# EAGLE library part XC3S250E (library xilinx-XC3SXXXE_vq100)
Xilinx Spartan 3E FPGA
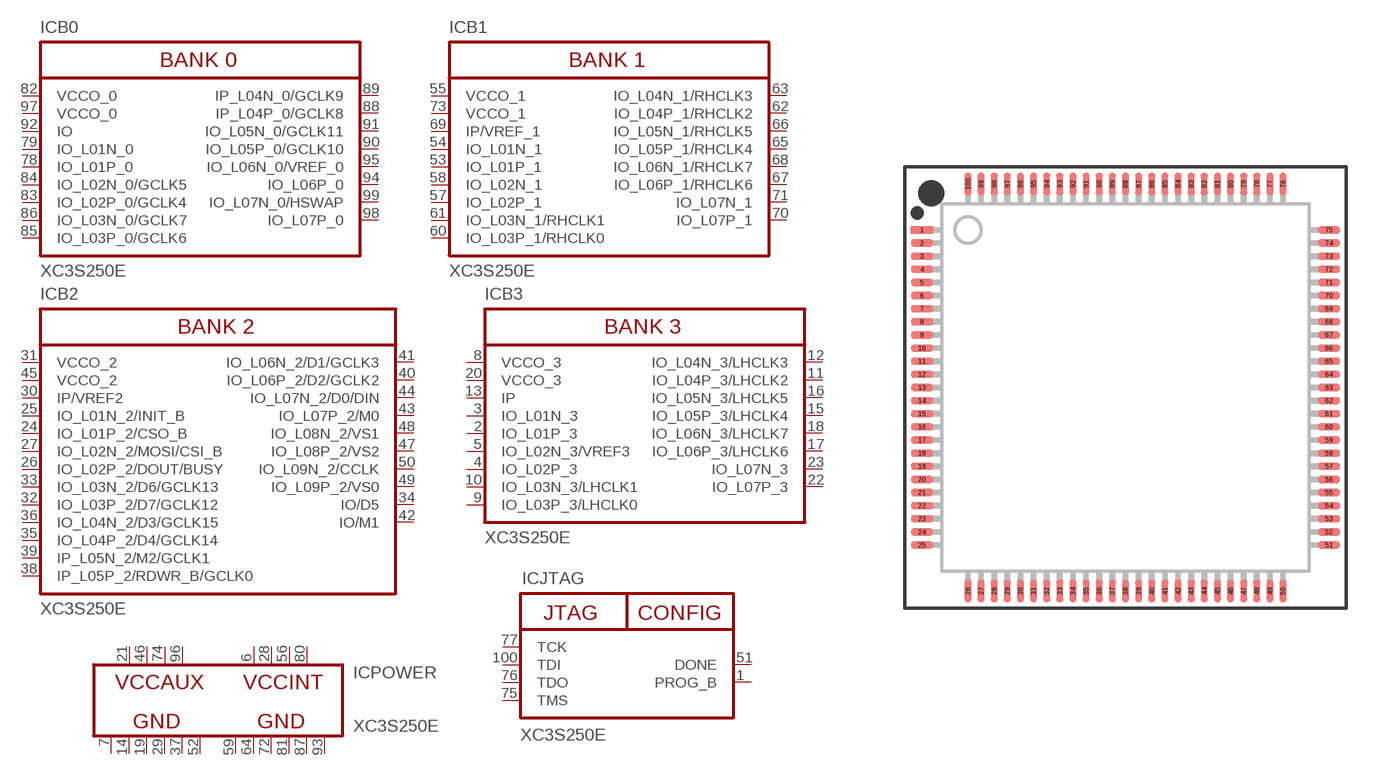
[diagram p1: symbol with the pads of VQ100; footprint VQ100]

Designator prefix IC; gates B0=XC100VQ100BANK0 B1=XC100VQ100BANK1 B2=XC100VQ100BANK2 B3=XC100VQ100BANK3 JTAG=XC100VQ100JTAG POWER=XC100VQ100POWER

## XC3S250E-VQ100  [VQ100]
1  JTAG:PROG_B  in
2  B3:IO_L01P_3
3  B3:IO_L01N_3
4  B3:IO_L02P_3
5  B3:IO_L02N_3/VREF3
6  POWER:VCCINT  pwr
7  POWER:GND  pwr
8  B3:VCCO_3  pwr
9  B3:IO_L03P_3/LHCLK0
10  B3:IO_L03N_3/LHCLK1
11  B3:IO_L04P_3/LHCLK2
12  B3:IO_L04N_3/LHCLK3
13  B3:IP  in
14  POWER:GND  pwr
15  B3:IO_L05P_3/LHCLK4
16  B3:IO_L05N_3/LHCLK5
17  B3:IO_L06P_3/LHCLK6
18  B3:IO_L06N_3/LHCLK7
19  POWER:GND  pwr
20  B3:VCCO_3  pwr
21  POWER:VCCAUX  pwr
22  B3:IO_L07P_3
23  B3:IO_L07N_3
24  B2:IO_L01P_2/CSO_B
25  B2:IO_L01N_2/INIT_B
26  B2:IO_L02P_2/DOUT/BUSY
27  B2:IO_L02N_2/MOSI/CSI_B
28  POWER:VCCINT  pwr
29  POWER:GND  pwr
30  B2:IP/VREF2  in
31  B2:VCCO_2  pwr
32  B2:IO_L03P_2/D7/GCLK12
33  B2:IO_L03N_2/D6/GCLK13
34  B2:IO/D5
35  B2:IO_L04P_2/D4/GCLK14
36  B2:IO_L04N_2/D3/GCLK15
37  POWER:GND  pwr
38  B2:IP_L05P_2/RDWR_B/GCLK0  in
39  B2:IP_L05N_2/M2/GCLK1  in
40  B2:IO_L06P_2/D2/GCLK2
41  B2:IO_L06N_2/D1/GCLK3
42  B2:IO/M1
43  B2:IO_L07P_2/M0
44  B2:IO_L07N_2/D0/DIN
45  B2:VCCO_2  pwr
46  POWER:VCCAUX  pwr
47  B2:IO_L08P_2/VS2
48  B2:IO_L08N_2/VS1
49  B2:IO_L09P_2/VS0
50  B2:IO_L09N_2/CCLK
51  JTAG:DONE  out
52  POWER:GND  pwr
53  B1:IO_L01P_1
54  B1:IO_L01N_1
55  B1:VCCO_1  pwr
56  POWER:VCCINT  pwr
57  B1:IO_L02P_1
58  B1:IO_L02N_1
59  POWER:GND  pwr
60  B1:IO_L03P_1/RHCLK0
61  B1:IO_L03N_1/RHCLK1
62  B1:IO_L04P_1/RHCLK2
63  B1:IO_L04N_1/RHCLK3
64  POWER:GND  pwr
65  B1:IO_L05P_1/RHCLK4
66  B1:IO_L05N_1/RHCLK5
67  B1:IO_L06P_1/RHCLK6
68  B1:IO_L06N_1/RHCLK7
69  B1:IP/VREF_1  in
70  B1:IO_L07P_1
71  B1:IO_L07N_1
72  POWER:GND  pwr
73  B1:VCCO_1  pwr
74  POWER:VCCAUX  pwr
75  JTAG:TMS  in
76  JTAG:TDO  out
77  JTAG:TCK  in
78  B0:IO_L01P_0
79  B0:IO_L01N_0
80  POWER:VCCINT  pwr
81  POWER:GND  pwr
82  B0:VCCO_0  pwr
83  B0:IO_L02P_0/GCLK4
84  B0:IO_L02N_0/GCLK5
85  B0:IO_L03P_0/GCLK6
86  B0:IO_L03N_0/GCLK7
87  POWER:GND  pwr
88  B0:IP_L04P_0/GCLK8  in
89  B0:IP_L04N_0/GCLK9  in
90  B0:IO_L05P_0/GCLK10
91  B0:IO_L05N_0/GCLK11
92  B0:IO
93  POWER:GND  pwr
94  B0:IO_L06P_0
95  B0:IO_L06N_0/VREF_0
96  POWER:VCCAUX  pwr
97  B0:VCCO_0  pwr
98  B0:IO_L07P_0
99  B0:IO_L07N_0/HSWAP
100  JTAG:TDI  in

## Footprint VQ100 (pad centres in mm)
Very-thin Quad Flat Package
smd 0.85 x 0.28: 1 -7.75,6; 2 -7.75,5.5; 3 -7.75,5; 4 -7.75,4.5; 5 -7.75,4; 6 -7.75,3.5; 7 -7.75,3; 8 -7.75,2.5; 9 -7.75,2; 10 -7.75,1.5; 11 -7.75,1; 12 -7.75,0.5; 13 -7.75,0; 14 -7.75,-0.5; 15 -7.75,-1; 16 -7.75,-1.5; 17 -7.75,-2; 18 -7.75,-2.5; 19 -7.75,-3; 20 -7.75,-3.5; 21 -7.75,-4; 22 -7.75,-4.5; 23 -7.75,-5; 24 -7.75,-5.5; 25 -7.75,-6; 51 7.75,-6; 52 7.75,-5.5; 53 7.75,-5; 54 7.75,-4.5; 55 7.75,-4; 56 7.75,-3.5; 57 7.75,-3; 58 7.75,-2.5; 59 7.75,-2; 60 7.75,-1.5; 61 7.75,-1; 62 7.75,-0.5; 63 7.75,0; 64 7.75,0.5; 65 7.75,1; 66 7.75,1.5; 67 7.75,2; 68 7.75,2.5; 69 7.75,3; 70 7.75,3.5; 71 7.75,4; 72 7.75,4.5; 73 7.75,5; 74 7.75,5.5; 75 7.75,6
smd 0.28 x 0.85: 26 -6,-7.75; 27 -5.5,-7.75; 28 -5,-7.75; 29 -4.5,-7.75; 30 -4,-7.75; 31 -3.5,-7.75; 32 -3,-7.75; 33 -2.5,-7.75; 34 -2,-7.75; 35 -1.5,-7.75; 36 -1,-7.75; 37 -0.5,-7.75; 38 0,-7.75; 39 0.5,-7.75; 40 1,-7.75; 41 1.5,-7.75; 42 2,-7.75; 43 2.5,-7.75; 44 3,-7.75; 45 3.5,-7.75; 46 4,-7.75; 47 4.5,-7.75; 48 5,-7.75; 49 5.5,-7.75; 50 6,-7.75; 76 6,7.75; 77 5.5,7.75; 78 5,7.75; 79 4.5,7.75; 80 4,7.75; 81 3.5,7.75; 82 3,7.75; 83 2.5,7.75; 84 2,7.75; 85 1.5,7.75; 86 1,7.75; 87 0.5,7.75; 88 0,7.75; 89 -0.5,7.75; 90 -1,7.75; 91 -1.5,7.75; 92 -2,7.75; 93 -2.5,7.75; 94 -3,7.75; 95 -3.5,7.75; 96 -4,7.75; 97 -4.5,7.75; 98 -5,7.75; 99 -5.5,7.75; 100 -6,7.75